# EAGLE library part SI1967DH-T1-E3 (library SW_MOSFET)
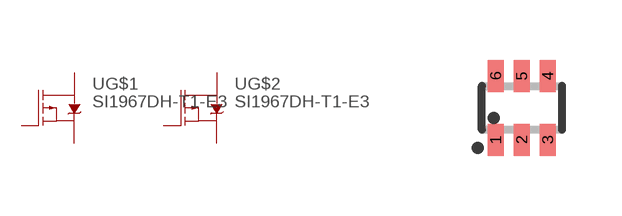
[diagram p0: symbol with the pads of SOT363_PHILIPS; footprint SOT363_PHILIPS]

Designator prefix U; gates G$1=PMOS G$2=PMOS

## SI1967DH-T1-E3 (CATEGORY: FET; DESCRIPTION: MOSFET 2P-CH 20V 1.3A SC70-6; MFGS: Vishay Siliconix; MPNS: SI1967DH-T1-E3; PACKAGE: SOT-363)  [SOT363_PHILIPS]
1  G$1:S
2  G$1:G
3  G$2:D
4  G$2:S
5  G$2:G
6  G$1:D

## Footprint SOT363_PHILIPS (pad centres in mm)
Small Outline Transistor; 6 leads Philips Semiconductors, SOT363.pdf
smd 0.4 x 0.8: 1 -0.65,-0.8; 2 0,-0.8; 3 0.65,-0.8; 4 0.65,0.8; 5 0,0.8; 6 -0.65,0.8